# EAGLE library part ACS712ELCTR-20A-T (library ACS712ELCTR-20A-T)
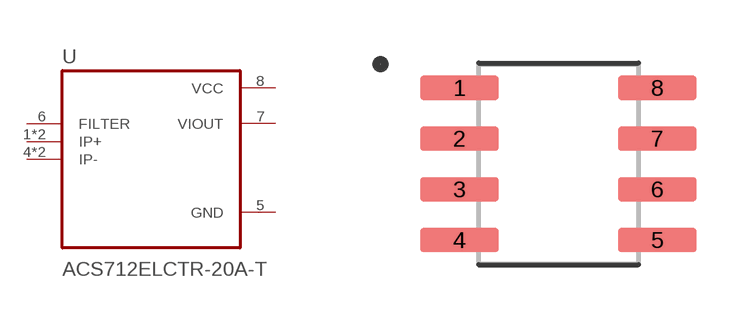
[diagram p0: symbol with the pads of SOIC127P600X175-8N; footprint SOIC127P600X175-8N]

Designator prefix U

## ACS712ELCTR-20A-T (Availability: Unavailable; Description: Current Sensor 20A 1 Channel Hall Effect, Open Loop Bidirectional 8-SOIC (0.154, 3.90mm Width); MF: Allegro; MP: ACS712ELCTR-20A-T; Package: SOIC-8 Allegro MicroSystems LLC; Price: None)  [SOIC127P600X175-8N]
1  IP+  in
2  IP+  in
3  IP-  in
4  IP-  in
5  GND  pwr
6  FILTER  in
7  VIOUT  out
8  VCC  pwr

## Footprint SOIC127P600X175-8N (pad centres in mm)
smd 1.97 x 0.6: 1 -2.475,1.905; 2 -2.475,0.635; 3 -2.475,-0.635; 4 -2.475,-1.905; 5 2.475,-1.905; 6 2.475,-0.635; 7 2.475,0.635; 8 2.475,1.905